# EAGLE library part 2450BM15A0002 (library X893)
http://www.johansontechnology.com/images/stories/ip/baluns/balun_filter_combo_matched_2450bm15a0002_prelim_v4.pdf
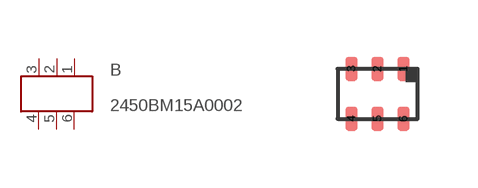
[diagram p50: symbol with the pads of 0896BM15A0001; footprint 0896BM15A0001]

Designator prefix B

## 2450BM15A0002  [0896BM15A0001]
1  UP  pas
2  GND  pwr
3  BP1  pas
4  BP2  pas
5  GND  pwr
6  GND  pwr

## Footprint 0896BM15A0001 (pad centres in mm)
896 MHz Balun/Matching Network for T.I. Chipset CC11X http://www.johansontechnology.com/images/stories/ip/baluns/balun_filter_combo_matched_0896bm15a0001_v5.pdf
smd 0.3 x 0.6: 1 0.65,0.625; 2 0,0.625; 3 -0.65,0.625; 4 -0.65,-0.625; 5 0,-0.625; 6 0.65,-0.625